# EAGLE library part WAGO2060-403 (library con-wago-2060)
WAGO Cage Clamp SMD-Leiterplattenklemmen mit Betätigungsdrückern, 0,75 mm2 Eindrähtige Leiter anschließen – direkt stecken. Feindrähtige Leiter anschließen und Leiter lösen – durch geringen Druck auf den Betätigungsdrücker, z.B. mit Betätigungswerkzeug 206-860. Klemmen polverlustfrei nebeneinander positionierbar. Rastermaß 4 mm / 0.157 in 0,2 – 0,75 mm2 AWG 24 – 18 160 V/2,5 kV/2 9 A lichtgrau: 1pol. 2060-401 / 2pol. 2060-402 / 3pol. 2060-403 weiss: 1pol. 2060-451 / 2pol. 2060-452 / 3pol. 2060-453 schwarz: 1pol. 2060-471 / 2pol. 2060-472 / 3pol. 2060-473
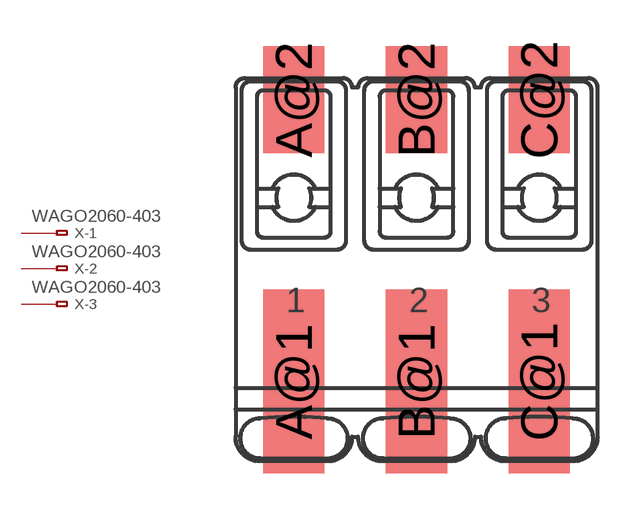
[diagram p4: symbol with the pads of SMD_RM4_3; footprint SMD_RM4_3]

Designator prefix X; gates -1=KL-1 -2=KL-1 -3=KL-1

## WAGO2060-403  [SMD_RM4_3]
A@1  -1:PIN  pas
A@2  -1:PIN  pas
B@1  -2:PIN  pas
B@2  -2:PIN  pas
C@1  -3:PIN  pas
C@2  -3:PIN  pas

## Footprint SMD_RM4_3 (pad centres in mm)
smd 2 x 6: A@1 -3.81,-4.08; B@1 0.19,-4.08; C@1 4.19,-4.08
smd 2 x 3.5: A@2 -3.81,5.12; B@2 0.19,5.12; C@2 4.19,5.12